# EAGLE library part USB-A-TH-DUAL-FLAT-SIDE (library USB Connector)
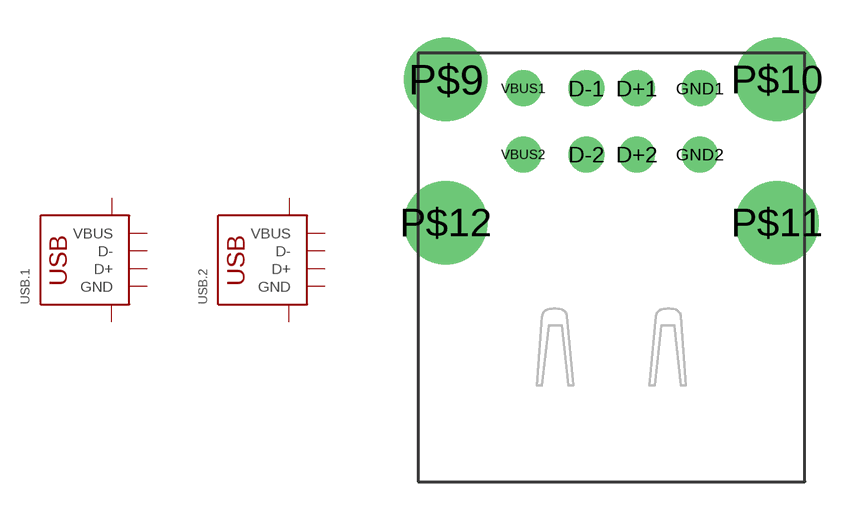
[diagram p9: symbol with the pads of USB-A-TH-DUAL-FLAT-SIDE; footprint USB-A-TH-DUAL-FLAT-SIDE]

Designator prefix USB; gates .1=USB-2-SHIELD .2=USB-2-SHIELD

## USB-A-TH-DUAL-FLAT-SIDE  [USB-A-TH-DUAL-FLAT-SIDE]
D+1  .1:D+
D+2  .2:D+
D-1  .1:D-
D-2  .2:D-
GND1  .1:GND
GND2  .2:GND
P$9  .1:SHIELD
P$10  .2:SHIELD
P$11  .1:SHIELD
P$12  .2:SHIELD
VBUS1  .1:VBUS
VBUS2  .2:VBUS

## Footprint USB-A-TH-DUAL-FLAT-SIDE (pad centres in mm)
WR-COM Horizontal Dual Stacked USB Type A
drill 0.92: D+1 1,5.33; D+2 1,2.71; D-1 -1,5.33; D-2 -1,2.71; GND1 3.5,5.33; GND2 3.5,2.71; VBUS1 -3.5,5.33; VBUS2 -3.5,2.71
drill 2.3: P$9 -6.57,5.68; P$10 6.57,5.68; P$11 6.57,0; P$12 -6.57,0